# EAGLE library part LED_RING (library SparkFun-LED)
Top Up Industry Corp 16 LED Ring - LED-CCLA 16 LEDs broken into quarters. 4 anode pins + 1 common ground / quadrant. Forward Voltage: Red 2.4V; Blue 3.0V Forward Current: Red 25mA; Blue 30mA Wavelength: Red 624nm; Blue 465nm SparkFun Products: Blue LED Ring <https://www.sparkfun.com/products/11492> Red LED Ring <https://www.sparkfun.com/products/10595>
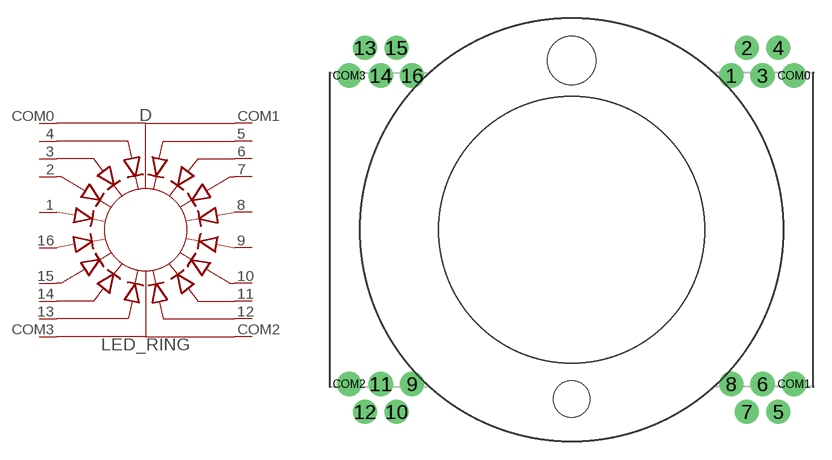
[diagram p7: symbol with the pads of LED_RING; footprint LED_RING]

Designator prefix D

## LED_RING (SF_ID: COM-10595)  [LED_RING]
1  1  pas
2  2  pas
3  3  pas
4  4  pas
5  5  pas
6  6  pas
7  7  pas
8  8  pas
9  9  pas
10  10  pas
11  11  pas
12  12  pas
13  13  pas
14  14  pas
15  15  pas
16  16  pas
COM0  COM0  pas
COM1  COM1  pas
COM2  COM2  pas
COM3  COM3  pas

## Footprint LED_RING (pad centres in mm)
16 LED Ring - LED-CCL-A Specifications: Pin count: 20 Area: 26 x 40mm Datasheet referenced for footprint: LED-CCL-A <http://cdn.sparkfun.com/datasheets/Components/LED/LED-CCL-A.pdf> Example device(s): LED Ring
drill 1.2 pad 2: 1 13.2,12.75; 2 14.5,15.05; 3 15.8,12.75; 4 17.1,15.05; 5 17.1,-15.05; 6 15.8,-12.75; 7 14.5,-15.05; 8 13.2,-12.75; 9 -13.2,-12.75; 10 -14.5,-15.05; 11 -15.8,-12.75; 12 -17.1,-15.05; 13 -17.1,15.05; 14 -15.8,12.75; 15 -14.5,15.05; 16 -13.2,12.75; COM0 18.4,12.75; COM1 18.4,-12.75; COM2 -18.4,-12.75; COM3 -18.4,12.75
hole 4 at 0,14
hole 3 at 0,-14